# Altium schematic symbol library OSC_4pin.SchLib: 1 symbol
Pins are listed as number, name and electrical type; pins without a type are passive.

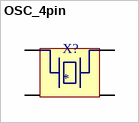
[diagram p0: symbol OSC_4pin]

## OSC_4pin
designator X?
pins: 1, 2, 3, 4